# EAGLE library part HX711 (library HX711)
Check availability <https://pricing.snapeda.com/parts/HX711/AVIA%20SEMICONDUCTOR/view-part?ref=eda>
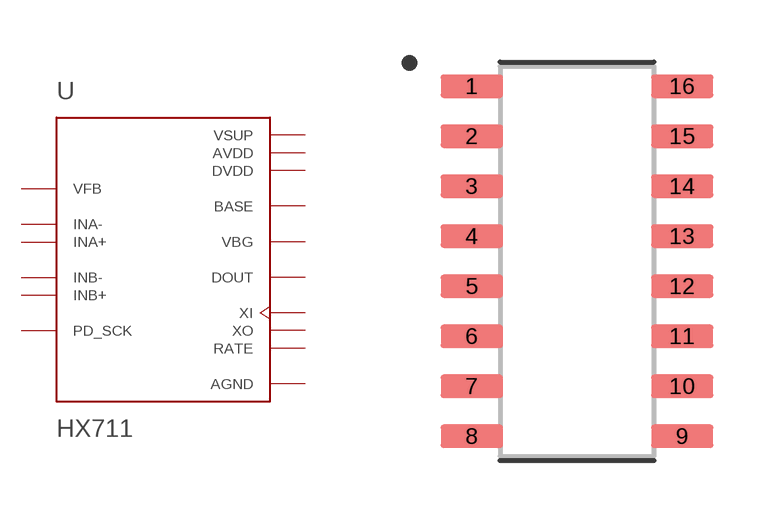
[diagram p0: symbol with the pads of SOP127P600X180-16N; footprint SOP127P600X180-16N]

Designator prefix U

## HX711 (Availability: Not in stock; Check_prices: https://www.snapeda.com/parts/HX711/AVIA+SEMICONDUCTOR/view-part/?ref=eda; Description: Precision 24-bit analog-to-digital converter (ADC) designed for weigh scales and industrial control applications to interface directly with a bridge sensor.; MF: AVIA SEMICONDUCTOR; MP: HX711; Package: None; Price: None; SnapEDA_Link: https://www.snapeda.com/parts/HX711/AVIA+SEMICONDUCTOR/view-part/?ref=snap)  [SOP127P600X180-16N]
1  VSUP  pwr
2  BASE  out
3  AVDD  pwr
4  VFB  in
5  AGND  pwr
6  VBG  out
7  INA-  in
8  INA+  in
9  INB-  in
10  INB+  in
11  PD_SCK  in
12  DOUT  out
13  XO  out
14  XI  in
15  RATE  in
16  DVDD  pwr

## Footprint SOP127P600X180-16N (pad centres in mm)
smd 1.58 x 0.59: 1 -2.67,4.445; 2 -2.67,3.175; 3 -2.67,1.905; 4 -2.67,0.635; 5 -2.67,-0.635; 6 -2.67,-1.905; 7 -2.67,-3.175; 8 -2.67,-4.445; 9 2.67,-4.445; 10 2.67,-3.175; 11 2.67,-1.905; 12 2.67,-0.635; 13 2.67,0.635; 14 2.67,1.905; 15 2.67,3.175; 16 2.67,4.445